# EAGLE library part LM741 (library op-amp_zeke)
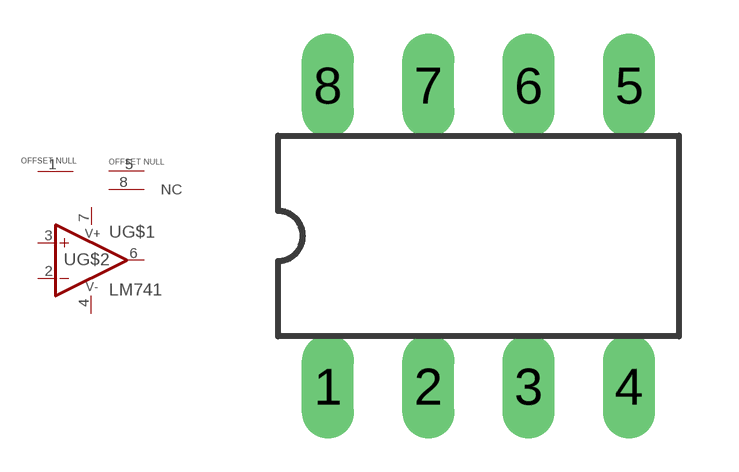
[diagram p0: symbol with the pads of DIL8; footprint DIL8]

Designator prefix -; gates G$1=OPAMP G$2=PWRN_OPAMP G$3=OFFSET_NULL G$4=NC

## LM741LM741  [DIL8]
1  G$3:OFFSET_NULL
2  G$1:-IN  in
3  G$1:+IN  in
4  G$2:V-  pwr
5  G$3:OFFSET_NULL2
6  G$1:OUT  out
7  G$2:V+  pwr
8  G$4:NC  nc

## Footprint DIL8 (pad centres in mm)
Dual In Line package type P
drill 0.813 long: 1 -3.81,-3.81; 2 -1.27,-3.81; 3 1.27,-3.81; 4 3.81,-3.81; 5 3.81,3.81; 6 1.27,3.81; 7 -1.27,3.81; 8 -3.81,3.81